# EAGLE library part SAMTEC-FTSH-120-01-F-DV-A (library samtec to dsub)
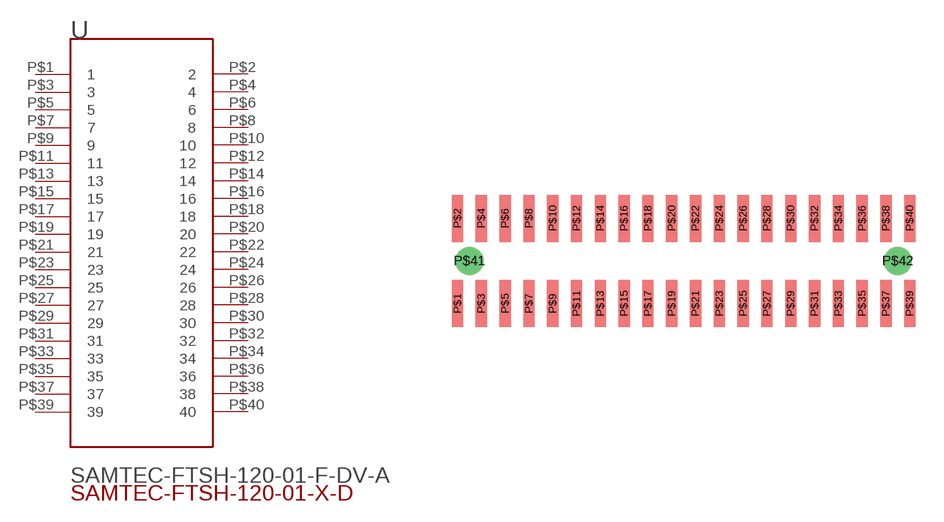
[diagram p0: symbol with the pads of SAMTEC-FTSH-LARGEPAD; footprint SAMTEC-FTSH-LARGEPAD]

Designator prefix -

## SAMTEC-FTSH-120-01-F-DV-A  [SAMTEC-FTSH-LARGEPAD]
P$1  1  pas
P$2  2  pas
P$3  3  pas
P$4  4  pas
P$5  5  pas
P$6  6  pas
P$7  7  pas
P$8  8  pas
P$9  9  pas
P$10  10  pas
P$11  11  pas
P$12  12  pas
P$13  13  pas
P$14  14  pas
P$15  15  pas
P$16  16  pas
P$17  17  pas
P$18  18  pas
P$19  19  pas
P$20  20  pas
P$21  21  pas
P$22  22  pas
P$23  23  pas
P$24  24  pas
P$25  25  pas
P$26  26  pas
P$27  27  pas
P$28  28  pas
P$29  29  pas
P$30  30  pas
P$31  31  pas
P$32  32  pas
P$33  33  pas
P$34  34  pas
P$35  35  pas
P$36  36  pas
P$37  37  pas
P$38  38  pas
P$39  39  pas
P$40  40  pas

## Footprint SAMTEC-FTSH-LARGEPAD (pad centres in mm)
smd 0.6 x 2.5: P$1 -12.078,-2.249; P$2 -12.078,2.301; P$3 -10.808,-2.249; P$4 -10.808,2.301; P$5 -9.538,-2.249; P$6 -9.538,2.301; P$7 -8.268,-2.249; P$8 -8.268,2.301; P$9 -6.998,-2.249; P$10 -6.998,2.301; P$11 -5.728,-2.249; P$12 -5.728,2.301; P$13 -4.458,-2.249; P$14 -4.458,2.301; P$15 -3.188,-2.249; P$16 -3.188,2.301; P$17 -1.918,-2.249; P$18 -1.918,2.301; P$19 -0.648,-2.249; P$20 -0.648,2.301; P$21 0.622,-2.249; P$22 0.622,2.301; P$23 1.892,-2.249; P$24 1.892,2.301; P$25 3.162,-2.249; P$26 3.162,2.301; P$27 4.432,-2.249; P$28 4.432,2.301; P$29 5.702,-2.249; P$30 5.702,2.301; P$31 6.972,-2.249; P$32 6.972,2.301; P$33 8.242,-2.249; P$34 8.242,2.301; P$35 9.512,-2.249; P$36 9.512,2.301; P$37 10.782,-2.249; P$38 10.782,2.301; P$39 12.052,-2.249; P$40 12.052,2.301
drill 1: P$41 -11.443,0.026; P$42 11.417,0.026